# Altium integrated library PJ324M.IntLib: 1 symbol
Pins are listed as number, name and electrical type; pins without a type are passive.

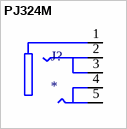
[diagram p0: symbol PJ324M]

## PJ324M
designator J?
Headphone Stereo jack/Audio connector; MF: Wenzhou QingPu Electronics Co.Ltd; MP: PJ324M; SnapEDA_Link: https://www.snapeda.com/parts/PJ324M/Wenzhou+QingPu+Electronics+Co.Ltd/view-part/?ref=snap; Package: Package; Value: *; Check_prices: https://www.snapeda.com/parts/PJ324M/Wenzhou+QingPu+Electronics+Co.Ltd/view-part/?ref=eda
footprint WENZHOU_PJ324M
pins: 1 SLEEVE, 2 RING_1, 3 RING_2, 4 TIP_1, 5 TIP_2